# Altium footprint library PowerMeter.PcbLib: 55 footprints (part 3 of 4)
Each footprint in its own frame and in the unit in brackets; x right, y up, seen from the top. Pads: shape width x height; smd on the part's side, far side on the other; paste and mask are expansions set on the pad; w line width, h text height; cw(c..) or ccw(c..) is an arc to the next point about the centre after c.
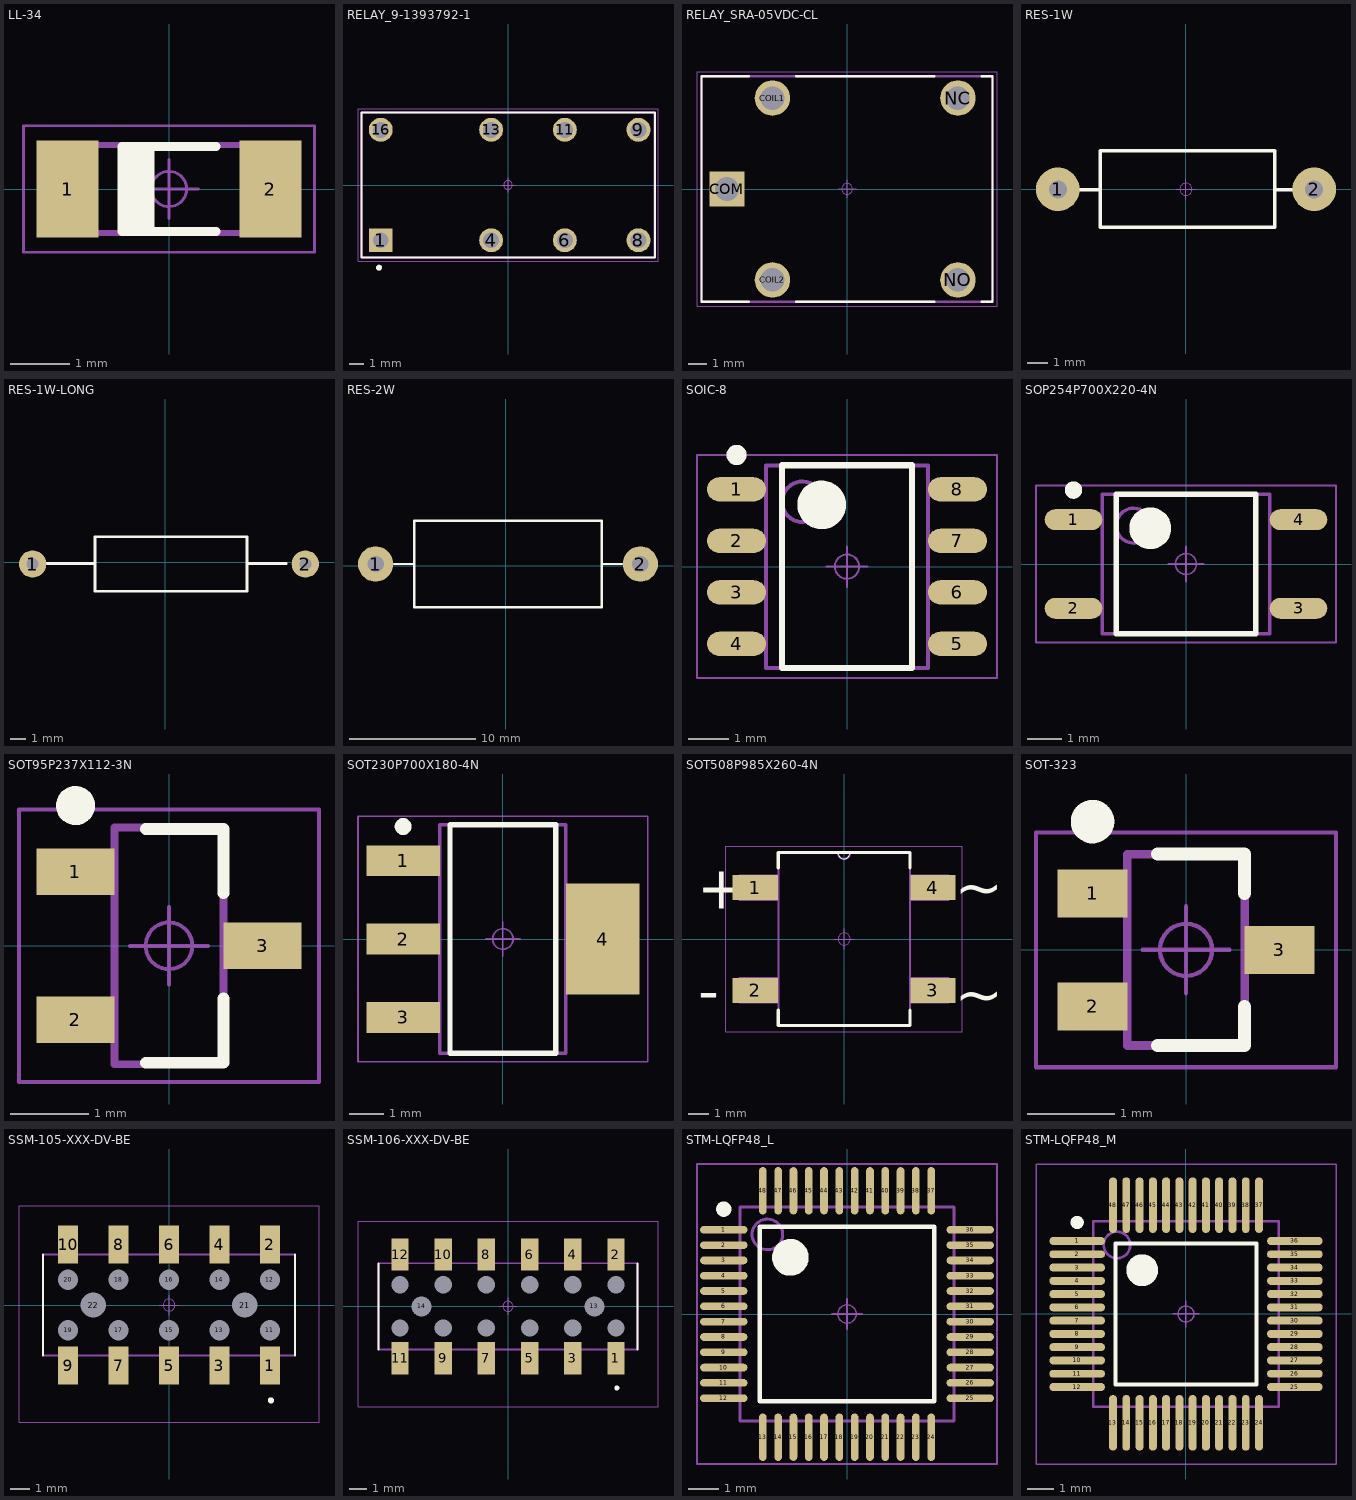
[diagram p2: the footprints below, top view; thin cyan lines are the x and y axes]

## LL-34 [mm] "MELF Diode, 2-Leads, Body 3.50x1.45mm, IPC Medium Density"
height 1.5
pads (2):
  rect 1.05x1.65 smd: 1(-1.725,0) 2(1.725,0)
Top Overlay:
  rectangle: -0.8,-0.725 -0.25,0.725
  lines w0.15: 0.8,-0.725 -0.8,-0.725 -0.8,0.725 0.8,0.725
Top Assembly:
  lines w0.1: -1.8,-0.75 1.8,-0.75 1.8,0.75 -1.8,0.75 -1.8,-0.75
  text "'.Designator'" at -2.8,-1.5 h1.52
Top Courtyard:
  lines w0.05: -2.475,-1.075 2.475,-1.075 2.475,1.075 -2.475,1.075 -2.475,-1.075
Top Component Center:
  circle w0.05: c0,0 r0.3
  lines w0.05: -0.5,0 0.5,0 ; 0,-0.5 0,0.5
3D body "DIOMELF3514N.step": height 1.45, standoff 0, extent -1.75,-0.72 1.75,0.72

## RELAY_9-1393792-1 [mm]
pads (8):
  rect 1.65x1.65 hole 1.1: 1(-8.78,-3.81)
  round 1.65 hole 1.1: 4(-1.16,-3.81) 6(3.92,-3.81) 8(9,-3.81) 9(9,3.81) 11(3.92,3.81) 13(-1.16,3.81) 16(-8.78,3.81)
Top Overlay:
  circle w0.2: c-8.9,-5.7 r0.1
  lines w0.127: -10.1,-5 -10.1,5 10.14,5 10.14,-5 -10.1,-5
Top Assembly:
  lines w0.127: -10.1,-5 10.1,-5 10.1,5 -10.1,5 -10.1,-5
  text "'.Designator'" at -8,-1 h1.52
Top Courtyard:
  lines w0.05: -10.35,-5.25 10.35,-5.25 10.35,5.25 -10.35,5.25 -10.35,-5.25
Top Component Center:
  circle w0.05: c0,0 r0.3
  lines w0.05: -0.5,0 0.5,0 ; 0,-0.5 0,0.5
Mechanical 13:
  circle w0.2: c-8.9,-5.7 r0.1
3D body "9-1393792-1.stp": height 10.5, standoff -3.5, extent -10.1,-5 10.1,5

## RELAY_SRA-05VDC-CL [mm]
height 14.2
pads (5):
  round 1.95 hole 1.3: COIL1(-4.1,5) COIL2(-4.1,-5) NC(6.1,5) NO(6.1,-5)
  rect 1.95x1.95 / inner round 1.95 / far side rect 1.95x1.95 hole 1.3: COM(-6.6,0)
Top Overlay:
  lines w0.127: -5.395,-6.2 -8,-6.2 -8,6.2 -5.395,6.2 ; -2.805,-6.2 4.805,-6.2 ; -2.805,6.2 4.805,6.2 ; 7.395,-6.2 8,-6.2 8,6.2 7.395,6.2
Top Assembly:
  lines w0.127: -8,-6.2 8,-6.2 8,6.2 -8,6.2 -8,-6.2
  text "'.Designator'" at -3.3,-1.4 h1.52
Top Courtyard:
  lines w0.05: -8.25,-6.45 8.25,-6.45 8.25,6.45 -8.25,6.45 -8.25,-6.45
Top Component Center:
  circle w0.05: c0.006,0.006 r0.3
  lines w0.05: -0.494,0.006 0.506,0.006 ; 0.006,-0.494 0.006,0.506
3D body "step_temp.STEP": height 14, standoff -3.2, extent -8,-6.2 8,6.2

## RES-1W [mil]
height 100
pads (2):
  round 85 hole 35: 1(-250,0) 2(250,0)
Top Overlay:
  lines w7: -208,-1 -167,-1 ; 173,-1 211,-1 ; -167,-73.81 -167,75 173,75 173,-73.81 -167,-73.81
Top Assembly:
  text "'.Designator'" at -236.22,-62.99 h60
Top Component Center:
  circle w1.97: c0,0 r11.81
  lines w1.97: -19.68,0 19.69,0 ; 0,-19.68 0,19.69
3D body "User Library-Res50-Axial 0_5W-3_3K.step": height 188.98, standoff -180.12, extent -264.76,-73.82 264.77,73.82

## RES-1W-LONG [mil]
height 100
pads (2):
  round 70 hole 31: 1(-340,-5) 2(360,-5)
Top Overlay:
  lines w7: -313,-4 -180,-4 ; 210,-4 311,-4 ; -180,-75 -180,65 210,65 210,-75 -180,-75
Top Assembly:
  text "'.Designator'" at -299.21,-62.99 h60
3D body "SW3dPS-Resistor 5-band.STEP": height 142, standoff -125, extent -335.75,-69.52 365.75,61.52

## RES-2W [mil] "R2W, 2 pin, 700mil"
height 200
pads (2):
  round 110 hole 51.18: 1(-405,5) 2(420,5)
Top Overlay:
  lines w7: -355,5 -285,5 -285,140 300,140 300,-130 -285,-130 ; 300,5 375,5
  lines w7.87: -285,-130 -285,5
Top Assembly:
  text "'.Designator'" at -314.96,-39.37 h60
3D body "SW3dPS-AXIAL_RESISTOR(3W).STEP": height 276.33, standoff -128.74, extent -428.01,-126 446.01,133.84

## SOIC-8 [mm] "SOIC, 8-Leads, Body 4.91x3.90mm, Pitch 1.27mm, IPC Medium Density"
pads (8):
  oval 1.45x0.6 smd: 1(-2.725,1.905) 2(-2.725,0.635) 3(-2.725,-0.635) 4(-2.725,-1.905) 5(2.725,-1.905) 6(2.725,-0.635) 7(2.725,0.635) 8(2.725,1.905)
Top Overlay:
  circle w0.25: c-2.725,2.755 r0.125
  circle w0.6: c-0.625,1.525 r0.3
  lines w0.15: -1.6,-2.5 -1.6,2.5 1.6,2.5 1.6,-2.5 -1.6,-2.5
Top Assembly:
  circle w0.1: c-1.1,1.6 r0.5
  lines w0.1: -2,-2.5 -2,2.5 2,2.5 2,-2.5 -2,-2.5
  text "'.Designator'" at -3.5,-1.6 h1.52
Top Courtyard:
  lines w0.05: -3.7,-2.75 -3.7,2.75 3.7,2.75 3.7,-2.75 -3.7,-2.75
Top Component Center:
  circle w0.05: c0,0 r0.3
  lines w0.05: -0.5,0 0.5,0 ; 0,-0.5 0,0.5
3D body "SOIC127P600X175-8N.step": height 1.75, standoff 0, extent -2.997,-2.5 2.997,2.5

## SOP254P700X220-4N [mm] "SOP, 4-Leads, Body 3.75x4.60mm, Pitch 2.54mm, IPC Medium Density"
height 2.2
pads (4):
  oval 1.65x0.6 smd: 1(-3.225,1.27) 2(-3.225,-1.27) 3(3.225,-1.27) 4(3.225,1.27)
Top Overlay:
  circle w0.25: c-3.225,2.12 r0.125
  circle w0.6: c-1.025,1.025 r0.3
  lines w0.15: -2,-2 -2,2 2,2 2,-2 -2,-2
Top Assembly:
  circle w0.1: c-1.5,1.1 r0.5
  lines w0.1: -2.4,-2 -2.4,2 2.4,2 2.4,-2 -2.4,-2
  text "'.Designator'" at -3,-1.6 h1.52
Top Courtyard:
  lines w0.05: -4.3,-2.25 -4.3,2.25 4.3,2.25 4.3,-2.25 -4.3,-2.25
Top Component Center:
  circle w0.05: c0,0 r0.3
  lines w0.05: -0.5,0 0.5,0 ; 0,-0.5 0,0.5
3D body "SOP254P700X220-4N.step": height 2.2, standoff 0, extent -3.5,-2 3.5,2

## SOT95P237X112-3N [mm] "SOT23, 3-Leads, Body 2.92x2.37mm, Pitch 0.95mm, IPC Medium Density"
height 1.12
pads (3):
  rect 1x0.6 smd: 1(-1.2,0.95) 2(-1.2,-0.95) 3(1.2,0)
Top Overlay:
  circle w0.25: c-1.2,1.8 r0.125
  lines w0.15: -0.3,-1.5 0.7,-1.5 0.7,-0.675 ; -0.3,1.5 0.7,1.5 0.7,0.675
Top Assembly:
  lines w0.1: -0.7,-1.52 -0.7,1.52 0.7,1.52 0.7,-1.52 -0.7,-1.52
  text "'.Designator'" at -2.8,-1.5 h1.52
Top Courtyard:
  lines w0.05: -1.925,-1.75 -1.925,1.75 1.925,1.75 1.925,-1.75 -1.925,-1.75
Top Component Center:
  circle w0.05: c0,0 r0.3
  lines w0.05: -0.5,0 0.5,0 ; 0,-0.5 0,0.5
3D body "SOT95P237X112-3N.step": height 1.12, standoff 0, extent -1.32,-1.52 1.32,1.52

## SOT230P700X180-4N [mm] "SOT223, 4-Leads, Body 6.50x7.00mm (avg), Pitch 2.30mm, IPC Medium Density"
height 1.8
pads (4):
  rect 2.15x0.9 smd: 1(-2.925,2.3) 2(-2.925,0) 3(-2.925,-2.3)
  rect 2.15x3.25 smd: 4(2.925,0)
Top Overlay:
  circle w0.25: c-2.925,3.3 r0.125
  lines w0.15: -1.55,-3.35 1.55,-3.35 1.55,3.35 -1.55,3.35 -1.55,-3.35
Top Assembly:
  lines w0.1: -1.85,-3.35 1.85,-3.35 1.85,3.35 -1.85,3.35 -1.85,-3.35
  text "'.Designator'" at -3.6,-1.4 h1.52
Top Courtyard:
  lines w0.05: -4.25,-3.6 4.25,-3.6 4.25,3.6 -4.25,3.6 -4.25,-3.6
Top Component Center:
  circle w0.05: c0,0 r0.3
  lines w0.05: -0.5,0 0.5,0 ; 0,-0.5 0,0.5
3D body "SOT230P700X180-4N.step": height 1.8, standoff 0, extent -3.5,-3.35 3.5,3.35

## SOT508P985X260-4N [mil]
pads (4):
  rect 88x49 smd: 1(-173,100) 2(-173,-100) 3(173,-100) 4(173,100)
Top Overlay:
  lines w0: -12,168 ccw(c0,168) 12,168
  lines w6: -128,-138 -128,-168 128,-168 128,-138 ; -128,138 -128,168 -12,168 12,168 128,168 128,138
  text "~" at 215.31,-147.21 h82.12
  text "~" at 215.4,61.11 h82.15
  text "-" at -283.37,-140.18 h82.11
  text "+" at -286.15,59.03 h82.04
Top Assembly:
  lines w3.94: -12,168 ccw(c0,168) 12,168 ; -12,168 12,168 ; -12,168 -128,168 -128,-168 128,-168 128,168 12,168 ; -203,-124 -203,-76 -128,-76 -128,-124 -203,-124 ; -203,76 -203,124 -128,124 -128,76 -203,76 ; 128,-124 128,-76 203,-76 203,-124 128,-124 ; 128,76 128,124 203,124 203,76 128,76
  text "'.Designator'" at -188.98,-55.12 h60
  text "~" at 215.42,-148.29 h82.16
  text "~" at 215.1,63.03 h82.04
  text "+" at -286.21,57.04 h82.06
  text "-" at -283.34,-141.17 h82.1
Top Courtyard:
  lines w1.97: -230,-180 230,-180 230,180 -230,180 -230,-180
Top Component Center:
  circle w1.97: c0,0 r11.81
  lines w1.97: -19.68,0 19.69,0 ; 0,-19.68 0,19.69
3D body "step_temp.STEP": height 115.35, standoff 0, extent -193.9,-162.99 193.9,162.99

## SOT-323 [mm] "SOT23, 3-Leads, Body 2.00x2.10mm, Pitch 0.65mm, IPC Medium Density"
height 1.1
pads (3):
  rect 0.8x0.55 smd: 1(-1.075,0.65) 2(-1.075,-0.65) 3(1.075,0)
Top Overlay:
  circle w0.25: c-1.075,1.475 r0.125
  lines w0.15: -0.325,-1.1 0.675,-1.1 0.675,-0.65 ; -0.325,1.1 0.675,1.1 0.675,0.65
Top Assembly:
  lines w0.1: -0.675,-1.1 0.675,-1.1 0.675,1.1 -0.675,1.1 -0.675,-1.1
  text "'.Designator'" at -2.1,-1.5 h1.52
Top Courtyard:
  lines w0.05: -1.725,-1.35 1.725,-1.35 1.725,1.35 -1.725,1.35 -1.725,-1.35
Top Component Center:
  circle w0.05: c0,0 r0.3
  lines w0.05: -0.5,0 0.5,0 ; 0,-0.5 0,0.5
3D body "SOT65P210X110-3N.step": height 1.1, standoff 0, extent -1.15,-1.1 1.15,1.1

## SSM-105-XXX-DV-BE [mm]
pads (22):
  rect 1.02x1.905 smd: 1(5.08,-3.047) 2(5.08,3.047) 3(2.54,-3.047) 4(2.54,3.047) 5(0,-3.047) 6(0,3.047) 7(-2.54,-3.047) 8(-2.54,3.047) 9(-5.08,-3.047) 10(-5.08,3.047)
  round 0.51 hole 1.02 unplated: 11(5.08,-1.27) 12(5.08,1.27) 13(2.54,-1.27) 14(2.54,1.27) 15(0,-1.27) 16(0,1.27) 17(-2.54,-1.27) 18(-2.54,1.27) 19(-5.08,-1.27) 20(-5.08,1.27)
  round 0.635 hole 1.27 unplated: 21(3.81,0) 22(-3.81,0)
Top Overlay:
  circle w0.2: c5.13,-4.798 r0.05
  lines w0.1: -6.35,-2.54 -6.35,2.54 ; 6.35,-2.54 6.35,2.54
Top Assembly:
  lines w0.1: -6.35,-2.54 -6.35,2.54 6.35,2.54 6.35,-2.54 -6.35,-2.54
  text "'.Designator'" at -6.8,-1.2 h1.52
Top Courtyard:
  lines w0.05: -7.55,-5.897 -7.55,5 7.55,5 7.55,-5.897 -7.55,-5.897
Top Component Center:
  circle w0.05: c0,0 r0.3
  lines w0.05: -0.5,0 0.5,0 ; 0,-0.5 0,0.5
3D body "SSM-105-S-DV.stp": height 7.39, standoff -0.03, extent -6.35,-3.518 6.35,3.518

## SSM-106-XXX-DV-BE [mm]
pads (26):
  rect 1.02x1.905 smd: 1(6.35,-3.047) 2(6.35,3.047) 3(3.81,-3.047) 4(3.81,3.047) 5(1.27,-3.047) 6(1.27,3.047) 7(-1.27,-3.047) 8(-1.27,3.047) 9(-3.81,-3.047) 10(-3.81,3.047) 11(-6.35,-3.047) 12(-6.35,3.047)
  round 0.585 hole 1.17 unplated: 13(5.08,0) 14(-5.08,0)
  round 0.51 hole 1.02 unplated: 13(6.35,-1.27) 14(6.35,1.27) 15(3.81,-1.27) 16(3.81,1.27) 17(1.27,-1.27) 18(1.27,1.27) 19(-1.27,-1.27) 20(-1.27,1.27) 21(-3.81,-1.27) 22(-3.81,1.27) 23(-6.35,-1.27) 24(-6.35,1.27)
Top Overlay:
  circle w0.2: c6.4,-4.798 r0.05
  lines w0.1: -7.62,-2.54 -7.62,2.54 ; 7.62,-2.54 7.62,2.54
Top Assembly:
  lines w0.1: -7.62,-2.54 -7.62,2.54 7.62,2.54 7.62,-2.54 -7.62,-2.54
  text "'.Designator'" at -6.8,-1.2 h1.52
Top Courtyard:
  lines w0.05: -8.82,-5.897 -8.82,5 8.82,5 8.82,-5.897 -8.82,-5.897
Top Component Center:
  circle w0.05: c0,0 r0.3
  lines w0.05: -0.5,0 0.5,0 ; 0,-0.5 0,0.5
3D body "SSM-106-S-DV-A.stp": height 7.5, standoff -1.09, extent -7.62,-3.518 7.62,3.518

## STM-LQFP48_L [mm] "QFP, 48-Leads, Body 7x7mm, Pitch 0.5mm, IPC High Density"
height 1.6
pads (48):
  oval 1.55x0.25 smd: 1(-4.025,2.75) 2(-4.025,2.25) 3(-4.025,1.75) 4(-4.025,1.25) 5(-4.025,0.75) 6(-4.025,0.25) 7(-4.025,-0.25) 8(-4.025,-0.75) 9(-4.025,-1.25) 10(-4.025,-1.75) 11(-4.025,-2.25) 12(-4.025,-2.75) 25(4.025,-2.75) 26(4.025,-2.25) 27(4.025,-1.75) 28(4.025,-1.25) 29(4.025,-0.75) 30(4.025,-0.25) 31(4.025,0.25) 32(4.025,0.75) 33(4.025,1.25) 34(4.025,1.75) 35(4.025,2.25) 36(4.025,2.75)
  oval 0.25x1.55 smd: 13(-2.75,-4.025) 14(-2.25,-4.025) 15(-1.75,-4.025) 16(-1.25,-4.025) 17(-0.75,-4.025) 18(-0.25,-4.025) 19(0.25,-4.025) 20(0.75,-4.025) 21(1.25,-4.025) 22(1.75,-4.025) 23(2.25,-4.025) 24(2.75,-4.025) 37(2.75,4.025) 38(2.25,4.025) 39(1.75,4.025) 40(1.25,4.025) 41(0.75,4.025) 42(0.25,4.025) 43(-0.25,4.025) 44(-0.75,4.025) 45(-1.25,4.025) 46(-1.75,4.025) 47(-2.25,4.025) 48(-2.75,4.025)
Top Overlay:
  circle w0.6: c-1.85,1.85 r0.3
  circle w0.25: c-4.025,3.425 r0.125
  lines w0.15: -2.85,-2.85 2.85,-2.85 2.85,2.85 -2.85,2.85 -2.85,-2.85
Top Assembly:
  circle w0.1: c-2.6,2.6 r0.5
  lines w0.1: -3.5,-3.5 3.5,-3.5 3.5,3.5 -3.5,3.5 -3.5,-3.5
  text "'.Designator'" at -3.8,-1.3 h1.52
Top Courtyard:
  lines w0.05: -4.9,-4.9 -4.9,4.9 4.9,4.9 4.9,-4.9 -4.9,-4.9
Top Component Center:
  circle w0.05: c0,0 r0.3
  lines w0.05: -0.5,0 0.5,0 ; 0,-0.5 0,0.5
3D body "STM32F030C8T6.STEP": height 1.6, standoff 0, extent -4.5,-4.5 4.5,4.5

## STM-LQFP48_M [mm] "QFP, 48-Leads, Body 7x7mm, Pitch 0.5mm, IPC Low Density"
height 1.6
pads (48):
  oval 2.1x0.3 smd: 1(-4.1,2.75) 2(-4.1,2.25) 3(-4.1,1.75) 4(-4.1,1.25) 5(-4.1,0.75) 6(-4.1,0.25) 7(-4.1,-0.25) 8(-4.1,-0.75) 9(-4.1,-1.25) 10(-4.1,-1.75) 11(-4.1,-2.25) 12(-4.1,-2.75) 25(4.1,-2.75) 26(4.1,-2.25) 27(4.1,-1.75) 28(4.1,-1.25) 29(4.1,-0.75) 30(4.1,-0.25) 31(4.1,0.25) 32(4.1,0.75) 33(4.1,1.25) 34(4.1,1.75) 35(4.1,2.25) 36(4.1,2.75)
  oval 0.3x2.1 smd: 13(-2.75,-4.1) 14(-2.25,-4.1) 15(-1.75,-4.1) 16(-1.25,-4.1) 17(-0.75,-4.1) 18(-0.25,-4.1) 19(0.25,-4.1) 20(0.75,-4.1) 21(1.25,-4.1) 22(1.75,-4.1) 23(2.25,-4.1) 24(2.75,-4.1) 37(2.75,4.1) 38(2.25,4.1) 39(1.75,4.1) 40(1.25,4.1) 41(0.75,4.1) 42(0.25,4.1) 43(-0.25,4.1) 44(-0.75,4.1) 45(-1.25,4.1) 46(-1.75,4.1) 47(-2.25,4.1) 48(-2.75,4.1)
Top Overlay:
  circle w0.25: c-4.1,3.45 r0.125
  circle w0.6: c-1.65,1.65 r0.3
  lines w0.15: -2.65,-2.65 -2.65,2.65 2.65,2.65 2.65,-2.65 -2.65,-2.65
Top Assembly:
  circle w0.1: c-2.6,2.6 r0.5
  lines w0.1: -3.5,-3.5 -3.5,3.5 3.5,3.5 3.5,-3.5 -3.5,-3.5
  text "'.Designator'" at -2.8,-1.4 h1.52
Top Courtyard:
  lines w0.05: -5.65,-5.65 5.65,-5.65 5.65,5.65 -5.65,5.65 -5.65,-5.65
Top Component Center:
  circle w0.05: c0,0 r0.3
  lines w0.05: -0.5,0 0.5,0 ; 0,-0.5 0,0.5
3D body "STM32F030C8T6.STEP": height 1.6, standoff 0, extent -4.5,-4.5 4.5,4.5